# Altium schematic symbol library IC_SENSORS.SchLib: 4 symbols
Pins are listed as number, name and electrical type; pins without a type are passive.

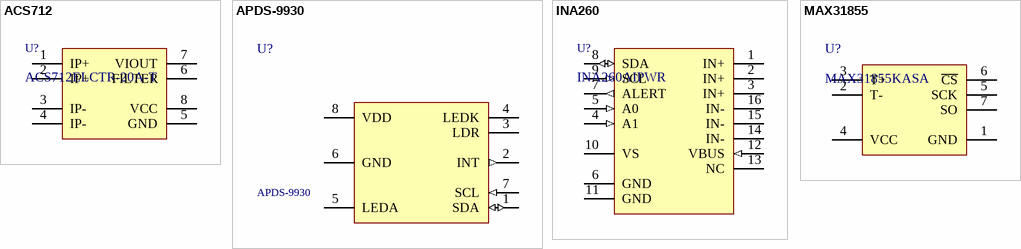
[diagram p0: symbols ACS712 to MAX31855]

## ACS712
designator U?, comment ACS712ELCTR-20A-T
Hall Effect-Based Linear Current Sensor; Supplier: https://www.chipdip.ru/product/acs712elctr-20a-t; BOMString: ACS712ELCTR-20A-T; Name: ACS712ELCTR-20A-T; HelpURL: https://www.sparkfun.com/datasheets/BreakoutBoards/0712.pdf
footprint SOIC-8
pins: 1 IP+, 2 IP+, 3 IP-, 4 IP-, 5 GND, 6 FILTER, 7 VIOUT, 8 VCC

## APDS-9930
designator U?
Digital Proximity and Ambient Light Sensor; Name: APDS-9930; BOMString: APDS-9930
footprint APDS9930
pins: 1 SDA (io), 2 INT (out), 3 LDR, 4 LEDK, 5 LEDA, 6 GND, 7 SCL (in), 8 VDD (power)

## INA260
designator U?, comment INA260AIPWR
Precision Digital Current and Power Monitor With Low-Drift; Name: INA260AIPWR; BOMString: INA260AIPWR; HelpURL: https://www.ti.com/lit/ds/symlink/ina260.pdf; Supplier: https://www.electronshik.ru/item/TI/INA260AIPWR
footprint TSSOP-16-0.65 (TSOP, 16-Leads, Body 5,00x4,40mm, Pitch 0,65mm, Thermal Pad 2,41x2,46mm, IPC Medium Density)
pins: 1 IN+, 2 IN+, 3 IN+, 4 A1 (in), 5 A0 (in), 6 GND, 7 ALERT (out), 8 SDA (io), 9 SCL (in), 10 VS, 11 GND, 12 VBUS (in), 13 NC, 14 IN-, 15 IN-, 16 IN-

## MAX31855
designator U?, comment MAX31855KASA
Cold-Junction Compensated / Thermocouple-to-Digital Converter; HelpURL: https://datasheets.maximintegrated.com/en/ds/MAX31855.pdf; Supplier: https://www.electronshik.ru/item/MAX/MAX31855KASA%2B; Name: MAX31855KASA; BOMString: MAX31855KASA
footprint SOIC-8
pins: 1 GND, 2 T-, 3 T+, 4 VCC, 5 SCK, 6 ~{CS}, 7 SO